# Altium schematic symbol library Passivos.SchLib: 72 symbols
Pins are listed as number, name and electrical type; pins without a type are passive.

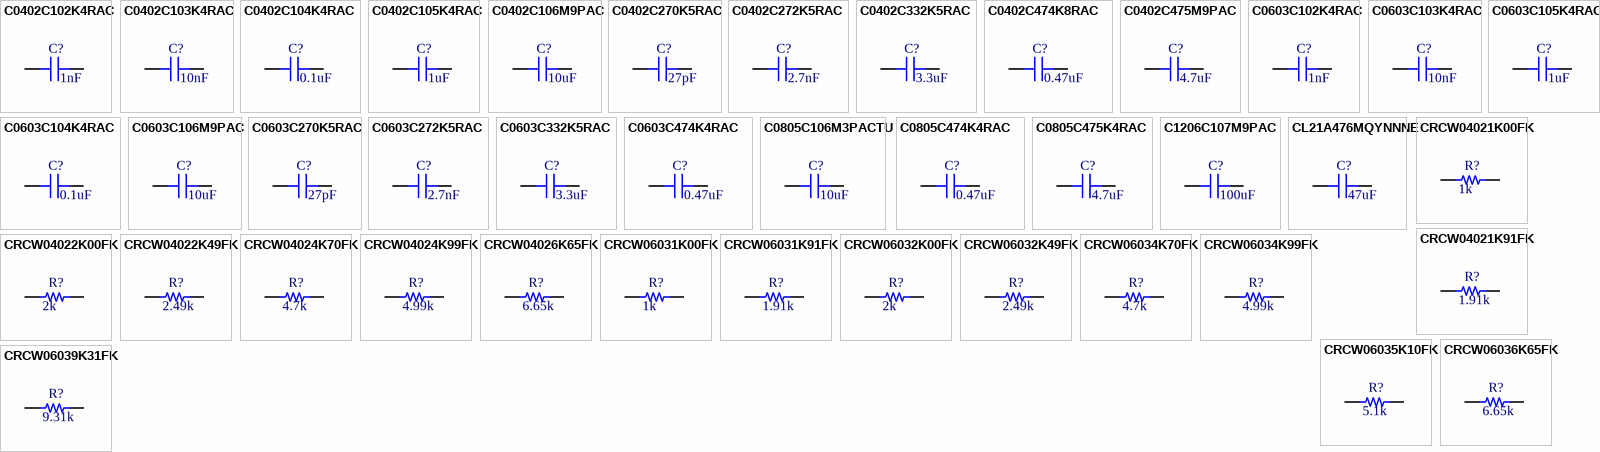
[diagram p0: symbols C0402C102K4RAC to CRCW06039K31FK]

## C0402C102K4RAC
designator C?, comment 1nF
CAP CER 1nF 16V X7R 0402 10%; PartNumber: C0402C102K4RAC; Manufactuer: Kemet; ComponentLink1Description: DataSheet; ComponentLink1URL: https://content.kemet.com/datasheets/KEM_C1002_X7R_SMD.pdf; ComponentLink2Description: DigiKey; ComponentLink2URL: https://www.digikey.com/en/products/filter/ceramic-capacitors/60?s=N4IgTCBcDaIMIAYAsCxwIyoNJIEoEE4QBdAXyA; Value: 1nF; Tolerance: 10%; Size: 0402; Voltage: 16V
footprint CAP0402
pins: 1, 2

## C0402C103K4RAC
designator C?, comment 10nF
CAP CER 10nF 16V X7R 0402 10%; Manufactuer: Kemet; PartNumber: C0402C103K4RAC; ComponentLink1Description: DataSheet; ComponentLink1URL: https://content.kemet.com/datasheets/KEM_C1002_X7R_SMD.pdf; ComponentLink2Description: DigiKey; ComponentLink2URL: https://www.digikey.com/en/products/filter/ceramic-capacitors/60?s=N4IgTCBcDaIMIAYAsCxwIwIMwGkkCUBBOEAXQF8g; Value: 10nF; Tolerance: 10%; Size: 0402; Voltage: 16V
footprint CAP0402
pins: 1, 2

## C0402C104K4RAC
designator C?, comment 0.1uF
CAP CER 0.1uF 16V X7R 0402 10%; Manufactuer: Kemet; PartNumber: C0402C104K4RAC; ComponentLink1Description: DataSheet; ComponentLink1URL: https://content.kemet.com/datasheets/KEM_C1002_X7R_SMD.pdf; ComponentLink2Description: DigiKey; ComponentLink2URL: https://www.digikey.com/en/products/filter/ceramic-capacitors/60?s=N4IgTCBcDaIMIAYAsCxwIzINJIEoEE4QBdAXyA; Value: 0.1uF; Tolerance: 10%; Size: 0402; Voltage: 16V
footprint CAP0402
pins: 1, 2

## C0402C105K4RAC
designator C?, comment 1uF
CAP CER 1uF 16V X7R 0402 10%; Manufacturer: Kemet; PartNumber: C0402C105K4RAC; ComponentLink1Description: DataSheet; ComponentLink1URL: https://content.kemet.com/datasheets/KEM_C1002_X7R_SMD.pdf; Size: 0402; ComponentLink2Description: DigiKey; ComponentLink2URL: https://www.digikey.com/en/products/detail/kemet/C0402C105K4RAC7867/22058709?s=N4IgTCBcDaIMIAYAsCxwIwIKwGkkCUBBOEAXQF8g; Value: 1uF; Tolerance: 10%; Voltage: 16V
footprint CAP0402
pins: 1, 2

## C0402C106M9PAC
designator C?, comment 10uF
CAP CER 10uF 6.3V X5R 0402 10%; Manufacturer: Kemet; PartNumber: C0402C106M9PAC; ComponentLink1Description: DataSheet; ComponentLink1URL: https://content.kemet.com/datasheets/KEM_C1006_X5R_SMD.pdf; ComponentLink2Description: DigiKey; ComponentLink2URL: https://www.digikey.com/en/products/filter/ceramic-capacitors/60?s=N4IgTCBcDaIMIAYAsCxwIwIGwFkCcACgIJwgC6AvkA; Value: 10uF; Tolerance: 10%; Voltage: 6.3V; Size: 0402
footprint CAP0402
pins: 1, 2

## C0402C270K5RAC
designator C?, comment 27pF
CAP CER 27pF 50V X7R 0402 10%; PartNumber: C0402C270K5RAC; Manufacturer: Kemet; ComponentLink1Description: DataSheet; ComponentLink1URL: https://content.kemet.com/datasheets/KEM_C1002_X7R_SMD.pdf; Size: 0402; ComponentLink2Description: DigiKey; ComponentLink2URL: https://www.digikey.com/en/products/detail/kemet/C0402C270K5RACTU/18167653?s=N4IgTCBcDaIMIAYAsCxzAdgQaQKwCUBBOEAXQF8g; Value: 27pF; Tolerance: 10%; Voltage: 50V
footprint CAP0402
pins: 1, 2

## C0402C272K5RAC
designator C?, comment 2.7nF
CAP CER 2.7nF 50V X7R 0402 10%; PartNumber: C0402C272K5RAC; Manufacturer: Kemet; Value: 2.2nF; ComponentLink1Description: DataSheet; ComponentLink1URL: https://content.kemet.com/datasheets/KEM_C1002_X7R_SMD.pdf; ComponentLink2Description: DigiKey; ComponentLink2URL: https://www.digikey.com/en/products/filter/ceramic-capacitors/60?s=N4IgTCBcDaIMIAYAsCxzAdjAaQKwCUBBOEAXQF8g; Tolerance: 10%; Voltage: 50V; Size: 0402
footprint CAP0402
pins: 1, 2

## C0402C332K5RAC
designator C?, comment 3.3uF
CAP CER 3.3nF 50V X7R 0402 10%; PartNumber: C0402C332K5RAC; Manufacturer: Kemet; ComponentLink1Description: DataSheet; ComponentLink1URL: https://content.kemet.com/datasheets/KEM_C1002_X7R_SMD.pdf; Size: 0402; ComponentLink2Description: DigiKey; ComponentLink2URL: https://www.digikey.com/en/products/filter/ceramic-capacitors/60?s=N4IgTCBcDaIMIAYAsCxwMzrAaQKwCUBBOEAXQF8g; Value: 3.3uF; Tolerance: 10%; Voltage: 50V
footprint CAP0402
pins: 1, 2

## C0402C474K8RAC
designator C?, comment 0.47uF
CAP CER 0.47uF 10V X7R 0402 10%; PartNumber: C0603C474K4RAC; Manufacturer: Kemet; ComponentLink1Description: DataSheet; ComponentLink1URL: https://content.kemet.com/datasheets/KEM_C1002_X7R_SMD.pdf; Size: 0402; ComponentLink2Description: DigiKey; ComponentLink2URL: https://www.digikey.com/en/products/filter/ceramic-capacitors/60?s=N4IgTCBcDaIMIAYAsCxyQdiQaQBwCUBBOEAXQF8g; ComponentLink3Description: ProductPage; ComponentLink3URL: https://www.kemet.com/en/us/product/C0805C474K4RACTU.html; Tolerance: 10%; Value: 0.47uF; Voltage: 10 V
footprint CAP0402
pins: 1, 2

## C0402C475M9PAC
designator C?, comment 4.7uF
CAP CER 4.7uF 6.3V X5R 0402 10%; PartNumber: C0402C475M9PAC; Manufacturer: Kemet; Voltage: 16V; ComponentLink1Description: DataSheet; ComponentLink1URL: https://content.kemet.com/datasheets/KEM_C1002_X7R_SMD.pdf; Size: 0402; ComponentLink2Description: DigiKey; ComponentLink2URL: https://www.digikey.com/en/products/filter/ceramic-capacitors/60?s=N4IgTCBcDaIMIAYAsCxyQdgKwFsCcADgIYDGIAugL5A; ComponentLink3Description: ProdructPage; ComponentLink3URL: https://www.kemet.com/en/us/search.html?q=C0402C475M9PAC; Value: 4.7uF; Tolerance: 10%
footprint CAP0402
pins: 1, 2

## C0603C102K4RAC
designator C?, comment 1nF
CAP CER 1nF 16V X7R 0603 10%; PartNumber: C0603C102K4RAC; Manufactuer: Kemet; ComponentLink1Description: DataSheet; ComponentLink1URL: https://content.kemet.com/datasheets/KEM_C1002_X7R_SMD.pdf; ComponentLink2Description: DigiKey; ComponentLink2URL: https://www.digikey.com/en/products/filter/ceramic-capacitors/60?s=N4IgTCBcDaIMIAYBsCDMcCMCwGkAsASgIJwgC6AvkA; Value: 1nF; Tolerance: 10%; Size: 0603; Voltage: 16V
footprint CAP0603
pins: 1, 2

## C0603C103K4RAC
designator C?, comment 10nF
CAP CER 10nF 16V X7R 0603 10%; PartNumber: C0603C103K4RAC; Manufactuer: Kemet; ComponentLink1Description: DataSheet; ComponentLink1URL: https://content.kemet.com/datasheets/KEM_C1002_X7R_SMD.pdf; ComponentLink2Description: DigiKey; ComponentLink2URL: https://www.digikey.com/en/products/detail/kemet/C0603C103K4RAC7867/2199755?s=N4IgTCBcDaIMIAYBsCDMcCMaDSAWASgIJwDsAHEiSALoC%2BQA; Value: 10nF; Tolerance: 10%; Size: 0603; Voltage: 16V
footprint CAP0603
pins: 1, 2

## C0603C104K4RAC
designator C?, comment 0.1uF
CAP CER 0.1uF 16V X7R 0603 10%; PartNumber: C0603C104K4RAC; Manufactuer: Kemet; ComponentLink1Description: DataSheet; ComponentLink1URL: https://content.kemet.com/datasheets/KEM_C1002_X7R_SMD.pdf; ComponentLink2Description: DigiKey; ComponentLink2URL: https://www.digikey.com/en/products/filter/ceramic-capacitors/60?s=N4IgTCBcDaIMIAYBsCDMcCMCAsBpbASgIJwgC6AvkA; Value: 0.1uF; Tolerance: 10%; Size: 0603; Voltage: 16V
footprint CAP0603
pins: 1, 2

## C0603C105K4RAC
designator C?, comment 1uF
CAP CER 1uF 16V X7R 0603 10%; PartNumber: C0603C105K4RAC; Manufacturer: Kemet; ComponentLink1Description: DataSheet; ComponentLink1URL: https://content.kemet.com/datasheets/KEM_C1002_X7R_SMD.pdf; Size: 0603; ComponentLink2Description: DigiKey; ComponentLink2URL: https://www.digikey.com/en/products/detail/kemet/C0603C105K4RAC7867/2199788; Value: 1uF; Tolerance: 10%; Voltage: 16V
footprint CAP0603
pins: 1, 2

## C0603C106M9PAC
designator C?, comment 10uF
CAP CER 10uF 6.3V X5R 0603 10%; PartNumber: C0603C106M9PAC; Manufacturer: Kemet; ComponentLink1Description: DataSheet; ComponentLink1URL: https://content.kemet.com/datasheets/KEM_C1006_X5R_SMD.pdf; Size: 0603; ComponentLink2Description: DigiKey; ComponentLink2URL: https://www.digikey.com/en/products/detail/kemet/C0603C106M9PAC7867/1950664; Value: 10uF; Tolerance: 10%; Voltage: 6.3V
footprint CAP0603
pins: 1, 2

## C0603C270K5RAC
designator C?, comment 27pF
CAP CER 27pF 50V X7R 0603 10%; PartNumber: C0603C270K5RAC; Manufacturer: Kemet; ComponentLink1Description: DataSheet; ComponentLink1URL: https://content.kemet.com/datasheets/KEM_C1002_X7R_SMD.pdf; Size: 0603; ComponentLink2Description: DigiKey; ComponentLink2URL: https://www.digikey.com/en/products/detail/kemet/C0603C270K5RAC7867/9923545?s=N4IgTCBcDaIMIAYBsCDMcwHYEGkCsASgIJyYAcSmIAugL5A; Value: 27pF; Tolerance: 10%; Voltage: 50V
footprint CAP0603
pins: 1, 2

## C0603C272K5RAC
designator C?, comment 2.7nF
CAP CER 2.7nF 50V X7R 0603 10%; PartNumber: C0603C272K5RAC; Manufacturer: Kemet; Value: 2.2nF; ComponentLink1Description: DataSheet; ComponentLink1URL: https://content.kemet.com/datasheets/KEM_C1002_X7R_SMD.pdf; Size: 0603; ComponentLink2Description: DigiKey; ComponentLink2URL: https://www.digikey.com/en/products/detail/kemet/C0603C272K5RAC7867/1933616; Tolerance: 10%; Voltage: 50V
footprint CAP0603
pins: 1, 2

## C0603C332K5RAC
designator C?, comment 3.3uF
CAP CER 3.3nF 50V X7R 0603 10%; PartNumber: C0603C332K5RAC7867; Manufacturer: Kemet; ComponentLink1Description: DataSheet; ComponentLink1URL: https://content.kemet.com/datasheets/KEM_C1002_X7R_SMD.pdf; Size: 0603; ComponentLink2Description: DigiKey; ComponentLink2URL: https://www.digikey.com/en/products/detail/kemet/C0603C332K5RAC7867/411085?s=N4IgTCBcDaIMIAYBsCDMdWrAaQKwCUBBOAdgA4kSQBdAXyA; Value: 3.3uF; Tolerance: 10%; Voltage: 50V
footprint CAP0603
pins: 1, 2

## C0603C474K4RAC
designator C?, comment 0.47uF
CAP CER 0.47uF 16V X7R 0603 10%; PartNumber: C0603C474K4RAC; Manufacturer: Kemet; ComponentLink1Description: DataSheet; ComponentLink1URL: https://content.kemet.com/datasheets/KEM_C1002_X7R_SMD.pdf; Size: 0603; ComponentLink2Description: DigiKey; ComponentLink2URL: https://www.digikey.com/es/products/detail/kemet/C0805C474K4RAC7800/2212885?s=N4IgTCBcDaIMIAYAcCCscAsB2DBpDASgIJwAqAqiALoC%2BQA; ComponentLink3Description: ProductPage; ComponentLink3URL: https://www.kemet.com/en/us/product/C0805C474K4RACTU.html; Tolerance: 10%; Value: 0.47uF; Voltage: 16 V
footprint CAP0603
pins: 1, 2

## C0805C106M3PACTU
designator C?, comment 10uF
CAP CER 10UF 25V X5R 0805 10%; Manufacturer: Kemet; PartNumber: C0805C106M3PACTU; ComponentLink1Description: DataSheet; ComponentLink1URL: https://content.kemet.com/datasheets/KEM_C1006_X5R_SMD.pdf; ComponentLink2Description: DigiKey; ComponentLink2URL: https://www.digikey.com/en/products/detail/kemet/C0805C106M3PACTU/5267534; Value: 10uF; Tolerance: 10%; Voltage: 25V; Size: 0805
footprint CAP0805
pins: 1, 2

## C0805C474K4RAC
designator C?, comment 0.47uF
CAP CER 0.47uF 16V X7R 0805 10%; PartNumber: C0805C474K4RAC; Manufacturer: Kemet; ComponentLink1Description: DataSheet; ComponentLink1URL: https://content.kemet.com/datasheets/KEM_C1002_X7R_SMD.pdf; Size: 0805; ComponentLink2Description: DigiKey; ComponentLink2URL: https://www.digikey.com/es/products/detail/kemet/C0805C474K4RAC7800/2212885?s=N4IgTCBcDaIMIAYAcCCscAsB2DBpDASgIJwAqAqiALoC%2BQA; ComponentLink3Description: ProductPage; ComponentLink3URL: https://www.kemet.com/en/us/product/C0805C474K4RACTU.html; Tolerance: 10%; Value: 0.47uF; Voltage: 16 V
footprint CAP0805
pins: 1, 2

## C0805C475K4RAC
designator C?, comment 4.7uF
CAP CER 4.7uF 16V X7R 0805 10%; PartNumber: C0805C475K4RAC; Manufacturer: Kemet; ComponentLink1Description: DataSheet; ComponentLink1URL: https://content.kemet.com/datasheets/KEM_C1002_X7R_SMD.pdf; Size: 0805; ComponentLink2Description: DigiKey; ComponentLink2URL: https://www.digikey.com/es/products/detail/kemet/C0805C475K4RAC7800/3317621?s=N4IgTCBcDaIMIAYAcCCscAsB2VBpDASgIJwAqAqiALoC%2BQA; ComponentLink3Description: ProdructPage; ComponentLink3URL: https://www.kemet.com/en/us/product/C0805C475K4RACTU.html; Value: 4.7uF; Tolerance: 10%; Voltage: 16V
footprint CAP0805
pins: 1, 2

## C1206C107M9PAC
designator C?, comment 100uF
CAP CER 100uF 6.3V X5R 1206 20%; PartNumber: C1206C107M9PAC; Manufacturer: Kemet; ComponentLink1Description: DataSheet; ComponentLink1URL: https://www.digikey.com/en/products/detail/kemet/C1206C107M9PAC7210/12700784; Size: 1206; ComponentLink2Description: DigiKey; ComponentLink2URL: https://www.digikey.com/en/products/detail/kemet/C1206C107M9PAC7210/12700784; Value: 100uF; Tolerance: 20%; Voltage: 6.3V
footprint CAP1206
pins: 1, 2

## CL21A476MQYNNNE
designator C?, comment 47uF
CAP CER 47uF 6.3V X5R 0805 20%; Manufacturer: Samsung; PartNumber: CL21A476MQYNNNE; ComponentLink1Description: DataSheet; ComponentLink1URL: https://mm.digikey.com/Volume0/opasdata/d220001/medias/docus/658/CL21A476MQYNNNE_Spec.pdf; Size: 0805; ComponentLink2Description: DigiKey; ComponentLink2URL: https://www.digikey.com/en/products/detail/samsung-electro-mechanics/CL21A476MQYNNNE/3887510; Value: 47uF; Voltage: 6.3V; Tolerance: 20%
footprint CAP0805
pins: 1, 2

## CRCW04021K00FK
designator R?, comment 1k
RES SMD 1K OHM 1% 0.063W 0402; Manufacturer: Vishay; PartNumber: CRCW04021K00FK; ComponentLink1Description: DigiKey; ComponentLink1URL: https://www.digikey.com/en/products/filter/chip-resistor-surface-mount/52?s=N4IgTCBcDaIMICU4HUAMAWVYCMBpVqAYriALoC%20QA; ComponentLink2Description: DataSheet; ComponentLink2URL: https://www.vishay.com/docs/20035/dcrcwe3.pdf; Tolerance: 1%; Value: 1k; Size: 0402; Power: 0.063W
footprint RES0402
pins: 1, 2

## CRCW04021K91FK
designator R?, comment 1.91k
RES SMD 1.91K OHM 1% 0.063W 0402; PartNumber: CRCW04021K91FK; Manufacturer: Vishay; ComponentLink1Description: DataSheet; ComponentLink1URL: https://www.vishay.com/docs/20035/dcrcwe3.pdf; Size: 0402; ComponentLink2Description: Digikey; ComponentLink2URL: https://www.digikey.com/en/products/filter/chip-resistor-surface-mount/52?s=N4IgTCBcDaIMICU4HUAMAWVYCMBpAnNgGK4gC6AvkA; Value: 1.91k; Tolerance: 1%; Power: 0.063W
footprint RES0402
pins: 1, 2

## CRCW04022K00FK
designator R?, comment 2k
RES SMD 2K OHM 1% 0.063W 0402; PartNumber: CRCW04022K00FK; Manufacturer: Vishay; ComponentLink1Description: DataSheet; ComponentLink1URL: https://www.vishay.com/docs/20035/dcrcwe3.pdf; ComponentLink2Description: DigiKey; ComponentLink2URL: https://www.digikey.com/en/products/filter/chip-resistor-surface-mount/52?s=N4IgTCBcDaIMYCc4HcAMAWVYwGtWoDMcQBdAXyA; Power: 0.063W; Value: 2k; Tolerance: 1%; Size: 0402
footprint RES0402
pins: 1, 2

## CRCW04022K49FK
designator R?, comment 2.49k
RES SMD 2.49K OHM 1% 0.063W 0402; Manufacturer: Vishay; PartNumber: CRCW04022K49FK; ComponentLink1Description: DataSheet; ComponentLink1URL: https://www.vishay.com/docs/20035/dcrcwe3.pdf; Size: 0402; ComponentLink2Description: DigiKey; ComponentLink2URL: https://www.digikey.com/en/products/filter/chip-resistor-surface-mount/52?s=N4IgTCBcDaIMICU4HUAMAWVYwGl0E4AxHEAXQF8g; Value: 2.49k; Tolerance: 1%; Power: 0.063W
footprint RES0402
pins: 1, 2

## CRCW04024K70FK
designator R?, comment 4.7k
RES SMD 4.7K OHM 1% 0.063W 0402; Manufacturer: Vishay; PartNumber: CRCW04024K70FK; ComponentLink1Description: DataSheet; ComponentLink1URL: https://www.vishay.com/docs/20035/dcrcwe3.pdf; Size: 0402; ComponentLink2Description: DigiKey; ComponentLink2URL: https://www.digikey.com/es/products/filter/resistor-de-chip-montaje-en-superficie/52?s=N4IgTCBcDaIMICU4HUAMAWVZ0GkDsqAYjiALoC%20QA; Power: 0.063 W; Value: 4.7k; Tolerance: 1%
footprint RES0402
pins: 1, 2

## CRCW04024K99FK
designator R?, comment 4.99k
RES SMD 4.99K OHM 1% 0.063W 0402; PartNumber: CRCW04024K99FK; Manufacturer: Vishay; ComponentLink1Description: DataSheet; ComponentLink1URL: https://www.vishay.com/docs/20035/dcrcwe3.pdf; Size: 0402; ComponentLink2Description: DigiKey; ComponentLink2URL: https://www.digikey.com/en/products/filter/chip-resistor-surface-mount/52?s=N4IgTCBcDaIMICU4HUAMAWVZ0GkCceAYjiALoC%20QA; Value: 4.99k; Tolerance: 1%; Power: 0.063W
footprint RES0402
pins: 1, 2

## CRCW04026K65FK
designator R?, comment 6.65k
RES SMD 6.65K OHM 1% 0.063W 0402; PartNumber: CRCW04026K65FK; Manufacturer: Vishay; ComponentLink1Description: DataSheet; ComponentLink1URL: https://www.vishay.com/docs/20035/dcrcwe3.pdf; ComponentLink2Description: DigiKey; ComponentLink2URL: https://www.digikey.com/en/products/filter/chip-resistor-surface-mount/52?s=N4IgTCBcDaIMICU4HUAMAWVYBsBpbArAGK4gC6AvkA; Tolerance: 1%; Power: 0.063W; Value: 6.65k; Size: 0402
footprint RES0402
pins: 1, 2

## CRCW06031K00FK
designator R?, comment 1k
RES SMD 1K OHM 1% 1/10W 0603; PartNumber: CRCW06031K00FK; Manufacturer: Vishay; Power: 0.1W; ComponentLink1Description: DigiKey; ComponentLink1URL: https://www.digikey.com/es/products/detail/vishay-dale/CRCW06031K00FKEA/1174668; ComponentLink2Description: DataSheet; ComponentLink2URL: https://www.vishay.com/docs/20035/dcrcwe3.pdf; Size: 0603; Value: 1k; Tolerance: 1%
footprint RES0603
pins: 1, 2

## CRCW06031K91FK
designator R?, comment 1.91k
RES SMD 1.91K OHM 1% 1/10W 0603; PartNumber: CRCW06031K91FK; Manufacturer: Vishay; Power: 0.1W; ComponentLink1Description: DataSheet; ComponentLink1URL: https://www.vishay.com/docs/20035/dcrcwe3.pdf; Size: 0603; ComponentLink2Description: Digikey; ComponentLink2URL: https://www.digikey.com/en/products/detail/vishay-dale/CRCW06031K91FKEA/1174698; Value: 1.91k; Tolerance: 1%
footprint RES0603
pins: 1, 2

## CRCW06032K00FK
designator R?, comment 2k
RES SMD 2K OHM 1% 1/10W 0603; PartNumber: CRCW06032K00FKEA; Manufacturer: Vishay; Power: 0.1W; ComponentLink1Description: DataSheet; ComponentLink1URL: https://www.vishay.com/docs/20035/dcrcwe3.pdf; Size: 0603; ComponentLink2Description: DigiKey; ComponentLink2URL: https://www.digikey.com/en/products/detail/vishay-dale/CRCW06032K00FKEA/1174700; Value: 2k; Tolerance: 1%
footprint RES0603
pins: 1, 2

## CRCW06032K49FK
designator R?, comment 2.49k
RES SMD 2.49K OHM 1% 1/10W 0603; PartNumber: CRCW06032K49FK; Manufacturer: Vishay; Power: 0.1W; ComponentLink1Description: DataSheet; ComponentLink1URL: https://www.vishay.com/docs/20035/dcrcwe3.pdf; Size: 0603; ComponentLink2Description: DigiKey; ComponentLink2URL: https://www.digikey.com/en/products/detail/vishay-dale/CRCW06032K49FKEA/1174711; Value: 2.49k; Tolerance: 1%
footprint RES0603
pins: 1, 2

## CRCW06034K70FK
designator R?, comment 4.7k
RES SMD 4.7K OHM 1% 1/10W 0603; Manufacturer: Vishay; PartNumber: CRCW06034K70FK; ComponentLink1Description: DataSheet; ComponentLink1URL: https://www.vishay.com/docs/20035/dcrcwe3.pdf; Size: 0603; ComponentLink2Description: DigiKey; ComponentLink2URL: https://www.digikey.com/en/products/detail/vishay-dale/CRCW06034K70FKEA/1174744; Power: 1/10 W; Value: 4.7k; Tolerance: 1%
footprint RES0603
pins: 1, 2

## CRCW06034K99FK
designator R?, comment 4.99k
RES SMD 4.99K OHM 1% 1/10W 0603; PartNumber: CRCW06034K99FK; Manufacturer: Vishay; Power: 0.1W; ComponentLink1Description: DataSheet; ComponentLink1URL: https://www.vishay.com/docs/20035/dcrcwe3.pdf; Size: 0603; ComponentLink2Description: DigiKey; ComponentLink2URL: https://www.digikey.com/en/products/detail/vishay-dale/CRCW06034K99FKEA/1174747; Value: 4.99k; Tolerance: 1%
footprint RES0603
pins: 1, 2

## CRCW06035K10FK
designator R?, comment 5.1k
RES SMD 5.1K OHM 1% 1/10W 0603; PartNumber: CRCW06035K10FK; Manufacturer: Vishay; Power: 0.1W; ComponentLink1Description: DataSheet; ComponentLink1URL: https://www.vishay.com/docs/20035/dcrcwe3.pdf; Size: 0603; ComponentLink2Description: DigiKey; ComponentLink2URL: https://www.digikey.com/es/products/detail/vishay-dale/crcw06035k10fkea/1174748; Value: 5.1k; Tolerance: 1%
footprint RES0603
pins: 1, 2

## CRCW06036K65FK
designator R?, comment 6.65k
RES SMD 6.65K OHM 1% 1/10W 0603; PartNumber: CRCW06036K65FK; Manufacturer: Vishay; Power: 0.1W; ComponentLink1Description: DataSheet; ComponentLink1URL: https://www.vishay.com/docs/20035/dcrcwe3.pdf; Size: 0603; ComponentLink2Description: DigiKey; ComponentLink2URL: https://www.digikey.com/en/products/detail/vishay-dale/CRCW06036K65FKEA/1174762; Value: 6.65k; Tolerance: 1%
footprint RES0603
pins: 1, 2

## CRCW06039K31FK
designator R?, comment 9.31k
RES SMD 9.31K OHM 1% 1/10W 0603; PartNumber: CRCW06039K31FK; Manufacturer: Vishay; Power: 0.1W; ComponentLink1Description: DataSheet; ComponentLink1URL: https://www.vishay.com/docs/20035/dcrcwe3.pdf; Size: 0603; ComponentLink2Description: DigiKey; ComponentLink2URL: https://www.digikey.com/es/products/detail/vishay-dale/CRCW06039K31FKEA/1174779; Value: 9.31k; Tolerance: 1%
footprint RES0603
pins: 1, 2

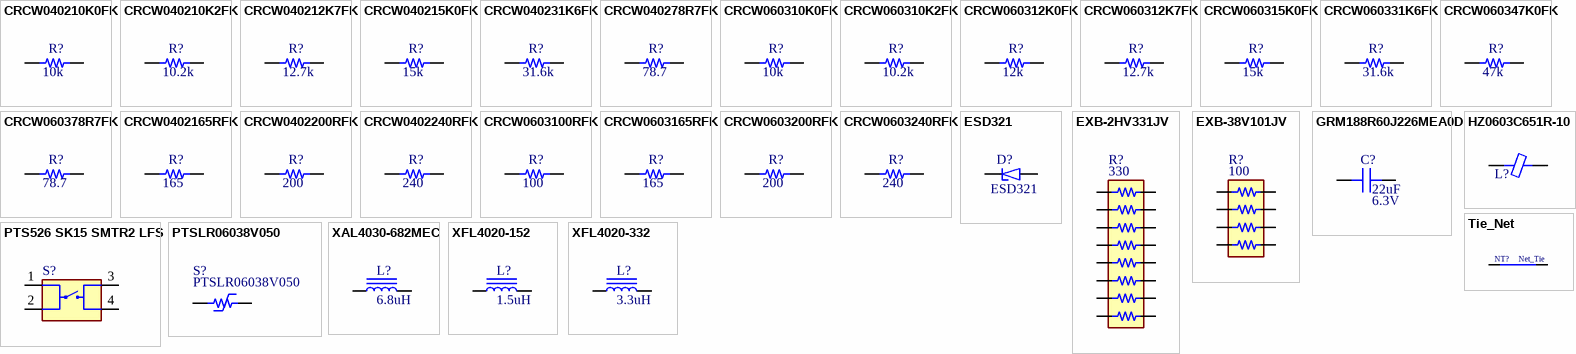
[diagram p1: symbols CRCW040210K0FK to XFL4020-332]

## CRCW040210K0FK
designator R?, comment 10k
RES SMD 10K OHM 1% 0.063W 0402; PartNumber: CRCW040210K0FK; Manufacturer: Vishay; ComponentLink1Description: DataSheet; ComponentLink1URL: https://www.vishay.com/docs/20035/dcrcwe3.pdf; Size: 0402; ComponentLink2Description: DigiKey; ComponentLink2URL: https://www.digikey.com/en/products/filter/chip-resistor-surface-mount/52?s=N4IgTCBcDaIMICU4HUAMAWVYCMqDSqAYniALoC%20QA; Value: 10k; Tolerance: 1%; Power: 0.063W
footprint RES0402
pins: 1, 2

## CRCW040210K2FK
designator R?, comment 10.2k
RES SMD 10.2K OHM 1% 0.063W 0402; PartNumber: CRCW040210K2FK; Manufacturer: Vishay; ComponentLink1Description: DataSheet; ComponentLink1URL: https://www.vishay.com/docs/20035/dcrcwe3.pdf; Size: 0402; ComponentLink2Description: DigiKey; ComponentLink2URL: https://www.digikey.com/en/products/filter/chip-resistor-surface-mount/52?s=N4IgTCBcDaIMICU4HUAMAWVYCMqDSYAYniALoC%20QA; Value: 10.2k; Power: 0.063W; Tolerance: 1%
footprint RES0402
pins: 1, 2

## CRCW040212K7FK
designator R?, comment 12.7k
RES SMD 12.7K OHM 1% 0.063W 0402; Manufacturer: Vishay; PartNumber: CRCW060312K7FK; ComponentLink1Description: DataSheet; ComponentLink1URL: https://www.vishay.com/docs/20035/dcrcwe3.pdf; Size: 0402; ComponentLink2Description: DigiKey; ComponentLink2URL: https://www.digikey.com/en/products/filter/chip-resistor-surface-mount/52?s=N4IgTCBcDaIMICU4HUAMAWVYCMYDSA7AGJ4gC6AvkA; Value: 12.7k; Tolerance: 1%; Power: 0.063W
footprint RES0402
pins: 1, 2

## CRCW040215K0FK
designator R?, comment 15k
RES SMD 15K OHM 1% 0.063W 0402; Manufacturer: Vishay; PartNumber: CRCW040215K0FK; ComponentLink1Description: DataSheet; ComponentLink1URL: https://www.vishay.com/docs/20035/dcrcwe3.pdf; Size: 0402; ComponentLink2Description: DigiKey; ComponentLink2URL: https://www.digikey.com/en/products/filter/chip-resistor-surface-mount/52?s=N4IgTCBcDaIMICU4HUAMAWVYCMBWA0qgGL4gC6AvkA; Power: 0.063W; Tolerance: 1%; Value: 15k
footprint RES0402
pins: 1, 2

## CRCW040231K6FK
designator R?, comment 31.6k
RES SMD 31.6K OHM 1% 0.063W 0402; Manufacturer: Vishay; PartNumber: CRCW040231K6FK; ComponentLink1Description: DataSheet; ComponentLink1URL: https://www.vishay.com/docs/20035/dcrcwe3.pdf; Size: 0402; ComponentLink2Description: DigiKey; ComponentLink2URL: https://www.digikey.com/en/products/filter/chip-resistor-surface-mount/52?s=N4IgTCBcDaIMICU4HUAMAWVYDMBGA0gGwBi%20IAugL5A; Power: 0.063W; Tolerance: 1%; Value: 31.6k
footprint RES0402
pins: 1, 2

## CRCW040278R7FK
designator R?, comment 78.7
RES SMD 78.7 OHM 1% 0.063W 0402; Manufacturer: Vishay; PartNumber: CRCW040278R7FK; Value: 78.8; ComponentLink1Description: DataSheet; ComponentLink1URL: https://www.vishay.com/docs/20035/dcrcwe3.pdf; ComponentLink2Description: DigiKey; ComponentLink2URL: https://www.digikey.com/en/products/filter/chip-resistor-surface-mount/52?s=N4IgTCBcDaIMICU4HUAMAWVYDsAOB2AYgNIgC6AvkA; Tolerance: 1%; Size: 0402; Power: 0.063W
footprint RES0402
pins: 1, 2

## CRCW060310K0FK
designator R?, comment 10k
RES SMD 10K OHM 1% 1/10W 0603; PartNumber: CRCW060310K0FK; Manufacturer: Vishay; Power: 0.1W; ComponentLink1Description: DataSheet; ComponentLink1URL: https://www.vishay.com/docs/20035/dcrcwe3.pdf; Size: 0603; ComponentLink2Description: DigiKey; ComponentLink2URL: https://www.digikey.com/en/products/detail/vishay-dale/CRCW060310K0FKEA/1174782; Value: 10k; Tolerance: 1%
footprint RES0603
pins: 1, 2

## CRCW060310K2FK
designator R?, comment 10.2k
RES SMD 10.2K OHM 1% 1/10W 0603; PartNumber: CRCW060310K2FK; Manufacturer: Vishay; Power: 0.1W; ComponentLink1Description: DataSheet; ComponentLink1URL: https://www.vishay.com/docs/20035/dcrcwe3.pdf; Size: 0603; ComponentLink2Description: DigiKey; ComponentLink2URL: https://www.digikey.com/en/products/detail/vishay-dale/CRCW060310K2FKEA/1174783; Value: 10.2k; Tolerance: 1%
footprint RES0603
pins: 1, 2

## CRCW060312K0FK
designator R?, comment 12k
RES SMD 12K OHM 1% 1/10W 0603; Manufacturer: Vishay; PartNumber: CRCW060312K0FK; Power: 0.1W; ComponentLink1Description: DataSheet; ComponentLink1URL: https://www.vishay.com/docs/20035/dcrcwe3.pdf; Size: 0603; ComponentLink2Description: DigiKey; ComponentLink2URL: https://www.digikey.com/en/products/detail/vishay-dale/CRCW060312K0FKEA/1174790; Value: 12k; Tolerance: 1%
footprint RES0603
pins: 1, 2

## CRCW060312K7FK
designator R?, comment 12.7k
RES SMD 12.7K OHM 1% 1/10W 0603; Manufacturer: Vishay; PartNumber: CRCW060312K7FK; Power: 0.1W; ComponentLink1Description: DataSheet; ComponentLink1URL: https://www.vishay.com/docs/20035/dcrcwe3.pdf; Size: 0603; ComponentLink2Description: DigiKey; ComponentLink2URL: https://www.digikey.com/en/products/detail/vishay-dale/CRCW060312K7FKEA/1174793; Value: 12.7k; Tolerance: 1%
footprint RES0603
pins: 1, 2

## CRCW060315K0FK
designator R?, comment 15k
RES SMD 15K OHM 1% 1/10W 0603; Manufacturer: Vishay; PartNumber: CRCW060315K0FK; Power: 0.1W; ComponentLink1Description: DataSheet; ComponentLink1URL: https://www.vishay.com/docs/20035/dcrcwe3.pdf; Size: 0603; ComponentLink2Description: DigiKey; ComponentLink2URL: https://www.digikey.com/en/products/detail/vishay-dale/CRCW060315K0FKEA/1174800; Tolerance: 1%; Value: 15k
footprint RES0603
pins: 1, 2

## CRCW060331K6FK
designator R?, comment 31.6k
RES SMD 31.6K OHM 1% 1/10W 0603; Manufacturer: Vishay; PartNumber: CRCW060331K6FK; Power: 0.1W; ComponentLink1Description: DataSheet; ComponentLink1URL: https://www.vishay.com/docs/20035/dcrcwe3.pdf; Size: 0603; ComponentLink2Description: DigiKey; ComponentLink2URL: https://www.digikey.com/en/products/detail/vishay-dale/CRCW060331K6FKEA/1174837; Tolerance: 1%; Value: 31.6k
footprint RES0603
pins: 1, 2

## CRCW060347K0FK
designator R?, comment 47k
RES SMD 47K OHM 1% 1/10W 0603; PartNumber: CRCW060347K0FK; Manufactuer: Vishay; Power: 0.1W; ComponentLink1Description: DataSheet; ComponentLink1URL: https://www.vishay.com/docs/20035/dcrcwe3.pdf; Size: 0603; ComponentLink2Description: DigiKey; ComponentLink2URL: https://www.digikey.com/es/products/detail/vishay-dale/CRCW060347K0FKEA/1174858; Value: 47k; Tolerance: 1%
footprint RES0603
pins: 1, 2

## CRCW060378R7FK
designator R?, comment 78.7
RES SMD 78.7 OHM 1% 1/10W 0603; Manufacturer: Vishay; PartNumber: CRCW060378R7FK; Value: 78.8; Power: 0.1W; ComponentLink1Description: DataSheet; ComponentLink1URL: https://www.vishay.com/docs/20035/dcrcwe3.pdf; ComponentLink2Description: DigiKey; ComponentLink2URL: https://www.digikey.com/es/products/detail/vishay-dale/CRCW060378R7FKEA/1174542; Tolerance: 1%; Size: 0603
footprint RES0603
pins: 1, 2

## CRCW0402165RFK
designator R?, comment 165
RES SMD 165 OHM 1% 0.063W 0402; Manufacturer: Vishay; PartNumber: CRCW0402165RFK; ComponentLink1Description: DataSheet; ComponentLink1URL: https://www.vishay.com/docs/20035/dcrcwe3.pdf; ComponentLink2Description: DigiKey; ComponentLink2URL: https://www.digikey.com/es/products/filter/resistor-de-chip-montaje-en-superficie/52?s=N4IgTCBcDaIMICU4HUAMAWVYCMA2ArAgGIDSIAugL5A; Value: 165; Tolerance: 1%; Size: 0402; Power: 0.063W
footprint RES0402
pins: 1, 2

## CRCW0402200RFK
designator R?, comment 200
RES SMD 200 OHM 1% 0.063W 0402; Manufacturer: Vishay; PartNumber: CRCW0402200RFK; ComponentLink1Description: DataSheet; ComponentLink1URL: https://www.vishay.com/docs/20035/dcrcwe3.pdf; ComponentLink2Description: DigiKey; ComponentLink2URL: https://www.digikey.com/es/products/filter/resistor-de-chip-montaje-en-superficie/52?s=N4IgTCBcDaIMICU4HUAMAWVYytQgYgNIgC6AvkA; Value: 200; Power: 0.063W; Tolerance: 1%; Size: 0402
footprint RES0402
pins: 1, 2

## CRCW0402240RFK
designator R?, comment 240
RES SMD 240 OHM 1% 1/10W 0402; Manufacturer: Vishay; PartNumber: CRCW0402240RFKEA; Power: 0.063W; ComponentLink1Description: DataSheet; ComponentLink1URL: https://www.vishay.com/docs/20035/dcrcwe3.pdf; ComponentLink2Description: DigiKey; ComponentLink2URL: https://www.digikey.com/en/products/detail/vishay-dale/CRCW0603240RFKEA/1174595; Value: 240; Tolerance: 1%; Size: 0402
footprint RES0402
pins: 1, 2

## CRCW0603100RFK
designator R?, comment 100
RES SMD 100 OHM 1% 1/10W 0603; Manufacturer: Vishay; PartNumber: CRCW0603100RFK; Power: 0.1W; ComponentLink1Description: DataSheet; ComponentLink1URL: https://www.vishay.com/docs/20035/dcrcwe3.pdf; ComponentLink2Description: DigiKey; ComponentLink2URL: https://www.digikey.com/es/products/detail/vishay-dale/CRCW0603100RFKEA/1174554?s=N4IgTCBcDaIMICU4HUAMA2VBmAjK1CAYgNICiAgiALoC%20QA; Value: 100; Tolerance: 1%; Size: 0603
footprint RES0603
pins: 1, 2

## CRCW0603165RFK
designator R?, comment 165
RES SMD 165 OHM 1% 1/10W 0603; Manufacturer: Vishay; PartNumber: CRCW0603165RFK; Power: 0.1W; ComponentLink1Description: DataSheet; ComponentLink1URL: https://www.vishay.com/docs/20035/dcrcwe3.pdf; ComponentLink2Description: DigiKey; ComponentLink2URL: https://www.digikey.com/es/products/detail/vishay-dale/CRCW0603165RFKEA/1174577?s=N4IgTCBcDaIMICU4HUAMA2VBmAjOgrAgGIDSAogIIgC6AvkA; Value: 165; Tolerance: 1%; Size: 0603
footprint RES0603
pins: 1, 2

## CRCW0603200RFK
designator R?, comment 200
RES SMD 200 OHM 1% 1/10W 0603; Manufacturer: Vishay; PartNumber: CRCW0603200RFKEA; Power: 0.1W; ComponentLink1Description: DataSheet; ComponentLink1URL: https://www.vishay.com/docs/20035/dcrcwe3.pdf; ComponentLink2Description: DigiKey; ComponentLink2URL: https://www.digikey.com/es/products/detail/vishay-dale/CRCW0603200RFKEA/1174586?s=N4IgTCBcDaIMICU4HUAMA2VBmMrUIDEBpAUQEEQBdAXyA; Value: 200; Tolerance: 1%; Size: 0603
footprint RES0603
pins: 1, 2

## CRCW0603240RFK
designator R?, comment 240
RES SMD 240 OHM 1% 1/10W 0603; Manufacturer: Vishay; PartNumber: CRCW0603240RFKEA; Power: 0.1W; ComponentLink1Description: DataSheet; ComponentLink1URL: https://www.vishay.com/docs/20035/dcrcwe3.pdf; ComponentLink2Description: DigiKey; ComponentLink2URL: https://www.digikey.com/en/products/detail/vishay-dale/CRCW0603240RFKEA/1174595; Value: 240; Tolerance: 1%; Size: 0603
footprint RES0603
pins: 1, 2

## ESD321
designator D?
0.9pF 3.6V ±30kV ESD protection diode with 6.8V 16A TLP clamping for USB 2.0; Manufacturer: Texas Instruments; ComponentLink1Description: ProductPage; ComponentLink1URL: https://www.ti.com/product/ESD321; Package: SOD-523; ComponentLink2Description: DataSheet; ComponentLink2URL: https://www.ti.com/lit/ds/symlink/esd321.pdf?ts=1717079562669&ref_url=https%253A%252F%252Fwww.ti.com%252Fproduct%252FESD321%253FkeyMatch%253DESD321%2526tisearch%253Dsearch-everything%2526usecase%253DGPN-ALT; ComponentLink3Description: DigyKey; ComponentLink3URL: https://www.digikey.com/en/products/detail/texas-instruments/ESD321DYAR/17394968; PartNumber: ESD321
footprint SOD-523
pins: A, K

## EXB-2HV331JV
designator R?, comment 330
RES ARRAY 8 RES 330 OHM 1506; Elements: 8; Value: 330 Ohms; ComponentLink1Description: DigiKey; ComponentLink1URL: https://www.digikey.com/en/products/detail/panasonic-electronic-components/EXB-2HV331JV/285313?s=N4IgTCBcDaIKIA0BCBaMAJAagZmwRgClMQBdAXyA; ComponentLink2Description: DataSheet; ComponentLink2URL: https://industrial.panasonic.com/cdbs/www-data/pdf/AOC0000/AOC0000C14.pdf; Size: 1506
footprint ArrayResistor-1506
pins: 1, 2, 3, 4, 5, 6, 7, 8, 9, 10, 11, 12, 13, 14, 15, 16

## EXB-38V101JV
designator R?, comment 100
RES ARRAY 4 RES 100 OHM 1206; Elements: 4; Value: 100 Ohms; ComponentLink1Description: DigiKey; ComponentLink1URL: https://www.digikey.com/en/products/detail/panasonic-electronic-components/EXB-38V101JV/256519?s=N4IgTCBcDaIKIA0BCBaAzADgGoEYAMOAUliALoC%2BQA; ComponentLink2Description: DataSheet; ComponentLink2URL: https://industrial.panasonic.com/cdbs/www-data/pdf/AOC0000/AOC0000C14.pdf; Size: 1206
footprint ArrayResistor-1206
pins: 1, 2, 3, 4, 5, 6, 7, 8

## GRM188R60J226MEA0D
designator C?, comment 22uF  Voltage: 6.3V
CAP CER 22UF 6.3V X5R 0603; ComponentLink1Description: DataSheet; ComponentLink1URL: https://search.murata.co.jp/Ceramy/image/img/A01X/G101/ENG/GRM188R60J226MEA0-01.pdf; Size: 0603; ComponentLink2Description: DigiKey; ComponentLink2URL: https://www.digikey.com/en/products/detail/murata-electronics/GRM188R60J226MEA0D/4280542
footprint CAP0603
pins: 1, 2

## HZ0603C651R-10
designator L?  (value not drawn)
FERRITE BEAD 650 OHM 0603 1LN 0603; Z@100MHz: 650 Ohms; Current: 300 mA; DCR: 0.6 Ohm; ComponentLink1Description: DataSheet; ComponentLink1URL: https://www.laird.com/sites/default/files/hz0603c651r-10-datasheet.pdf; ComponentLink2Description: DigiKey; ComponentLink2URL: https://www.digikey.com/es/products/detail/laird-signal-integrity-products/HZ0603C651R-10/806620?s=N4IgTCBcDaIBIC0AMA2JBmAwigrARgCUBaPJEAXQF8g; PartNumber: HZ0603C651R-10; Size: 0603
footprint Fer0603
pins: 1, 2

## PTS526 SK15 SMTR2 LFS
designator S?  (value not drawn)
SWITCH TACTILE SPST-NO 0.05A 12V; DigiKey: https://www.digikey.com/es/products/detail/c-k/PTS526-SK15-SMTR2-LFS/10056626; DataSheet: https://www.ckswitches.com/media/2780/pts526.pdf
footprint Push Button
pins: 1, 2, 3, 4

## PTSLR06038V050
designator S?
PTC resettable fuse 500mA, 8V, 0603; Manufacturer: Eaton; Itrip: 1A; MaxCurrent: 25A; ComponentLink1Description: DataSheet; ComponentLink1URL: https://www.eaton.com/content/dam/eaton/products/electronic-components/resources/data-sheet/eaton-ptslr0603-surface-mount-resettable-fuse-data-sheet-elx1047-en.pdf; PartNumber: PTSLR06038V050; Size: 0603; Ihold: 500mA; ComponentLink2Description: DigiKey; ComponentLink2URL: https://www.digikey.com/es/products/detail/eaton-electronics-division/PTSLR06038V050/15193495?s=N4IgTCBcDaIAoBUDKAZASgBgGwYMwA4A1DAVgxAF0BfIA; MaxVoltage: 8V
footprint PTSLR0603
pins: 1, 2

## Tie_Net
designator NT?, comment Net_Tie  (net tie, no BOM)
footprint Tie_Net 5x5mill
pins: 1, 2

## XAL4030-682MEC
designator L?, comment 6.8uH
FIXED IND 6.8UH 3.9A 74.1MOHM SM; ComponentLink1Description: DigiKey; ComponentLink1URL: https://www.digikey.com/en/products/detail/coilcraft/XAL4030-682MEC/21381592; ComponentLink2Description: DataSheet; ComponentLink2URL: https://www.coilcraft.com/en-us/files/datasheet/XAL40xx; Size: 1616
footprint IND1616-3.1mm
pins: 1, 2

## XFL4020-152
designator L?, comment 1.5uH
FIXED IND 1.5UH 9.1A 15.8MOHM SM; ComponentLink1Description: DigiKey; ComponentLink1URL: https://www.digikey.at/en/products/detail/coilcraft/XFL4020-152MEC/21387736; ComponentLink2Description: DataSheet; ComponentLink2URL: https://www.coilcraft.com/getmedia/50632d43-da1b-4cdb-8ab4-3029cab51df3/xfl4020.pdf; Size: 1616
footprint IND1616-2.1mm
pins: 1, 2

## XFL4020-332
designator L?, comment 3.3uH
FIXED IND 3.3UH 5.2A 38.3MOHM SM; ComponentLink1Description: DigiKey; ComponentLink1URL: https://www.digikey.com/en/products/detail/coilcraft/XFL4020-332MEC/21381630?s=N4IgTCBcDaIBoDEAyAWADGNBaAzDiAugL5A; ComponentLink2Description: DataSheet; ComponentLink2URL: https://www.coilcraft.com/getmedia/50632d43-da1b-4cdb-8ab4-3029cab51df3/xfl4020.pdf; Size: 1616
footprint IND1616-2.1mm
pins: 1, 2